# Altium footprint library PHOENIX_SPT_5.00MM_2x1.PcbLib: 1 footprints
Each footprint in its own frame and in the unit in brackets; x right, y up, seen from the top. Pads: shape width x height; smd on the part's side, far side on the other; paste and mask are expansions set on the pad; w line width, h text height; cw(c..) or ccw(c..) is an arc to the next point about the centre after c.
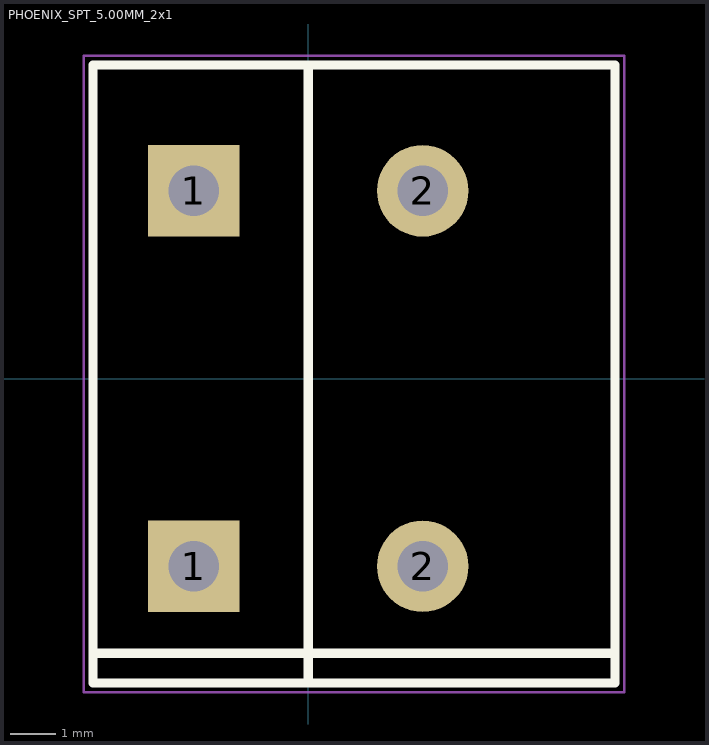
[diagram p0: the footprint, top view; thin cyan lines are the x and y axes]

## PHOENIX_SPT_5.00MM_2x1 [mm] "Phoenix SPT screwless terminal block"
pads (4):
  rect 2x2 hole 1.1: 1(-2.5,-4.1) 1(-2.5,4.1)
  round 2 hole 1.1: 2(2.5,-4.1) 2(2.5,4.1)
Top Overlay:
  lines w0.2: -4.7,-6 6.7,-6 ; 0,6.85 0,-6.6 0.05,-6.65 ; 0.025,-6.625 0.05,-6.65 ; 0.05,-6.65 0.05,-6.65 ; -4.7,-6.65 6.7,-6.65 6.7,6.85 -4.7,6.85 -4.7,-6.65
Mechanical 15:
  lines w0.05: -4.9,-6.85 6.9,-6.85 6.9,7.05 -4.9,7.05 -4.9,-6.85
3D body "PHOENIX_SPT-5-00mm_2x1.stp": height 14.39, standoff -2.6, extent -4.7,-6.65 6.7,6.85